# EAGLE library part HPD13A_V1.1 (library HPD13A LoRa transceiver)
HPD13A HPD13A v1.1 The HPD13A Sx1276 transceivers feature the LoRaTM long range modem that provides ultra-long range spread spectrum communication and high interference immunity whilst minimising current consumption. HPD13A Sx1276 can achieve a sensitivity of over -137.5 dBm using a low cost crystal and bill of materials. The high sensitivity combined with the integrated +20 dBm power amplifier yields industry leading link budget making it optimal for any application requiring range or robustness. LoRaTM also provides significant advantages in both blocking and selectivity over conventional modulation techniques, solving the traditional design compromise between range, interference immunity and energy consumption.
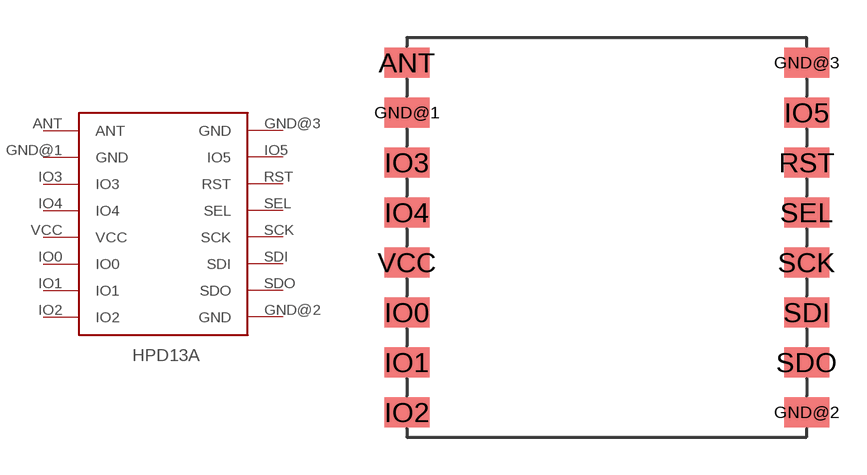
[diagram p0: symbol with the pads of HPD13A_V1.1; footprint HPD13A_V1.1]

Designator prefix HPD

## HPD13A_V1.1SMD  [HPD13A_V1.1]
ANT  ANT
GND@1  GND
GND@2  GND
GND@3  GND
IO0  IO0
IO1  IO1
IO2  IO2
IO3  IO3
IO4  IO4
IO5  IO5
RST  RST
SCK  SCK
SDI  SDI
SDO  SDO
SEL  SEL
VCC  VCC

## Footprint HPD13A_V1.1 (pad centres in mm)
smd 1.8 x 1.2: ANT 0,15; GND@1 0,13; GND@2 16,1; GND@3 16,15; IO0 0,5; IO1 0,3; IO2 0,1; IO3 0,11; IO4 0,9; IO5 16,13; RST 16,11; SCK 16,7; SDI 16,5; SDO 16,3; SEL 16,9; VCC 0,7